# Altium footprint library DFN-6-1EP_3x3_P1_EP1p5x2p4(HTU21).PcbLib: 1 footprints
Each footprint in its own frame and in the unit in brackets; x right, y up, seen from the top. Pads: shape width x height; smd on the part's side, far side on the other; paste and mask are expansions set on the pad; w line width, h text height; cw(c..) or ccw(c..) is an arc to the next point about the centre after c.
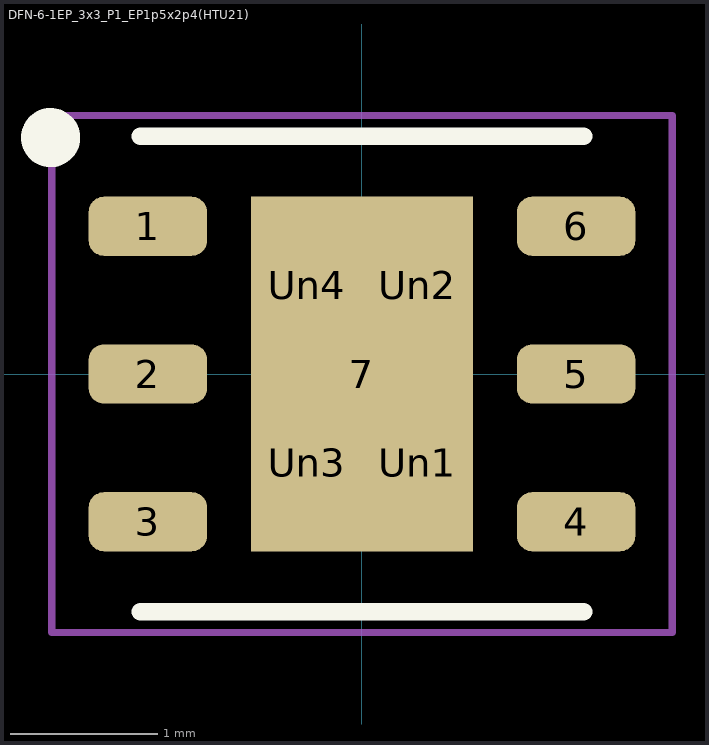
[diagram p0: the footprint, top view; thin cyan lines are the x and y axes]

## DFN-6-1EP_3x3_P1_EP1p5x2p4(HTU21) [mm]
pads (11):
  rrect50% 0.8x0.4 smd: 1(-1.45,1) 2(-1.45,0) 3(-1.45,-1) 4(1.45,-1) 5(1.45,0) 6(1.45,1)
  rect 1.5x2.4 smd paste-1: 7(0,0)
  rrect25% 0.6x0.97 on Top Paste: Un1(0.375,-0.6) Un2(0.375,0.6) Un3(-0.375,-0.6) Un4(-0.375,0.6)
F.SilkS:
  circle w0.2: c-2.108,1.6 r0.1
  lines w0.12: -1.5,-1.61 1.5,-1.61 ; -1.5,1.61 1.5,1.61
Top Courtyard (Mech15):
  lines w0.05: -2.1,-1.75 -2.1,1.75 2.1,1.75 2.1,-1.75 -2.1,-1.75
  lines w0.1: -0.5,0 0.5,0 ; 0,-0.5 0,0.5
3D body "HTU21.step": height 0.9, standoff -0.01, extent -1.501,-1.5 1.501,1.5